# Altium schematic symbol library УГО.SchLib: 9 symbols
Pins are listed as number, name and electrical type; pins without a type are passive.

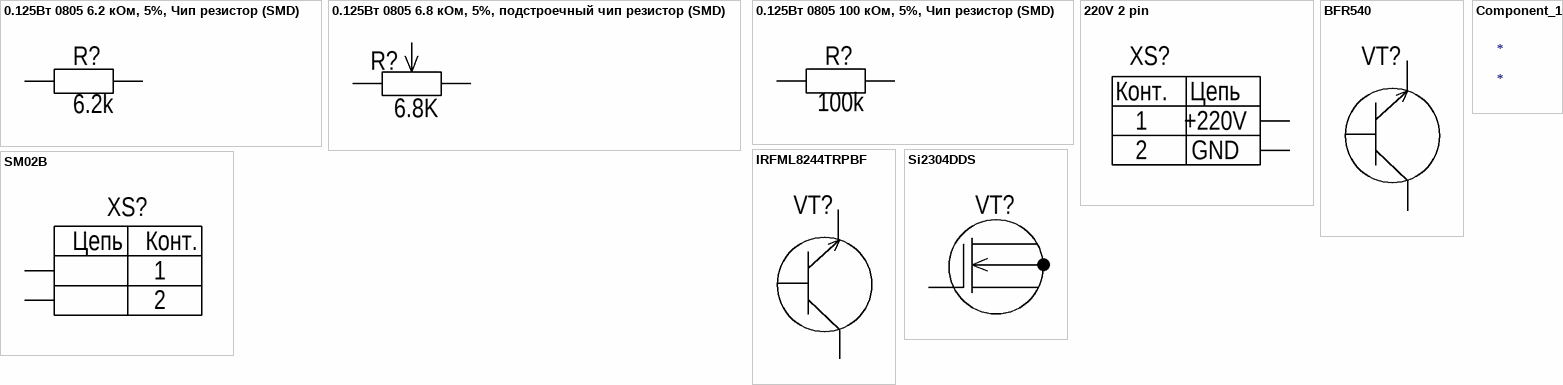
[diagram p0: symbols 0.125Вт 0805 6.2 кОм, 5%, Чип резистор (SMD) to SM02B]

## 0.125Вт 0805 6.2 кОм, 5%, Чип резистор (SMD)
designator R?, comment 6.2k
0805-0.125 Вт -6.2 кОм±5%
footprint 0805 (Чип (SMD))
pins: 1, 2

## 0.125Вт 0805 6.8 кОм, 5%, подстроечный чип резистор (SMD)
designator R?, comment 6.8K
0805-0.125 Вт -6.8 кОм±5%
footprint ST32 (Чип (SMD) поджстроечный)
pins: 1, 2, 3

## 0.125Вт 0805 100 кОм, 5%, Чип резистор (SMD)
designator R?, comment 100k
0805-0.125 Вт -100 кОм±5%
footprint 0805 (Чип (SMD))
pins: 1, 2

## 220V 2 pin
designator XS?  (value not drawn)
DG126-5.0-0.2P
footprint DG126-5.0-02P
pins: 1 Pin1, 2 Pin2
text: Конт.; Цепь; +220V; GND

## BFR540
designator VT?, comment Биполярный транзистор n-p-n  (value not drawn)
BFR540
footprint SOT23 (SOT23, 3-Leads, Body 2,92x2,45mm, Pitch 0,95mm, IPC Medium Density)
pins: 1 B, 2 E, 3 K

## Component_1
designator *

## IRFML8244TRPBF
designator VT?, comment Биполярный транзистор n-p-n  (value not drawn)
IRFML8244TRPBF
footprint SOT23 (SOT23, 3-Leads, Body 2,92x2,45mm, Pitch 0,95mm, IPC Medium Density)
pins: 1 B, 2 E, 3 K

## Si2304DDS
designator VT?, comment Полевой транзистор с изолированым затвором n-типа  (value not drawn)
Si2304DDS
footprint SOT23 (SOT23, 3-Leads, Body 2,92x2,45mm, Pitch 0,95mm, IPC Medium Density)
pins: 1 G, 2 S, 3 D

## SM02B
designator XS?  (value not drawn)
SM02B
footprint CI1102M1H  (F)
pins: 1 Pin1, 2 Pin2
text: Цепь; Конт.